# Altium schematic symbol library IC Analog.SchLib: 2 symbols
Pins are listed as number, name and electrical type; pins without a type are passive.

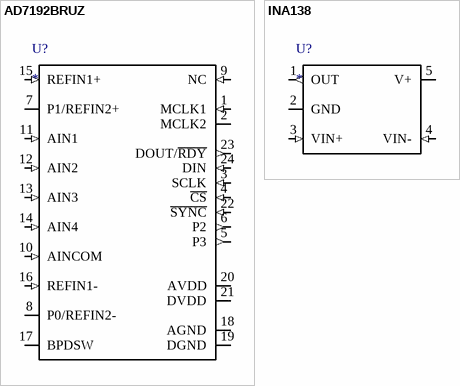
[diagram p0: symbols AD7192BRUZ to INA138]

## AD7192BRUZ
designator U?
Name: *
pins: 1 MCLK1 (in), 2 MCLK2 (io), 3 SCLK (in), 4 ~{CS} (in), 5 P3 (out), 6 P2 (out), 7 P1/REFIN2+ (io), 8 P0/REFIN2- (io), 9 NC (in), 10 AINCOM (in), 11 AIN1 (in), 12 AIN2 (in), 13 AIN3 (in), 14 AIN4 (in), 15 REFIN1+ (in), 16 REFIN1- (in), 17 BPDSW (power), 18 AGND (power), 19 DGND (power), 20 AVDD (power), 21 DVDD (power), 22 ~{SYNC} (in), 23 DOUT/~{RDY} (out), 24 DIN (in)

## INA138
designator U?
Name: *
pins: 1 OUT (out), 2 GND, 3 VIN+ (in), 4 VIN- (in), 5 V+ (power)